# EAGLE library part SEN-13762 (library MILESTONE4LIB_A)
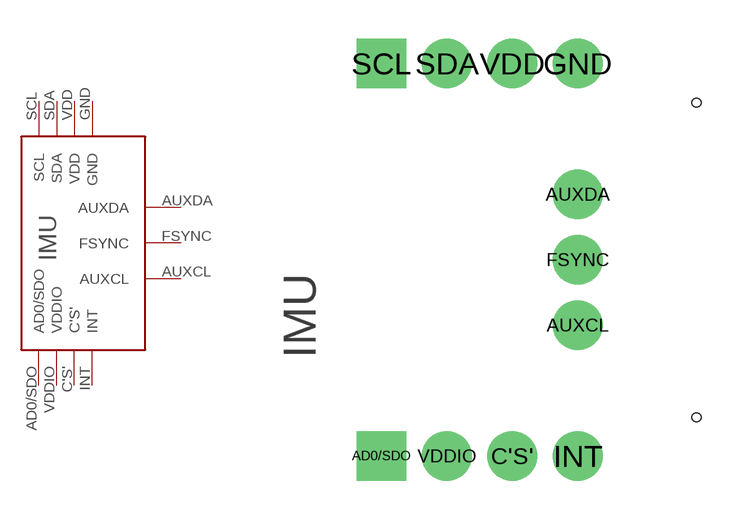
[diagram p2: symbol with the pads of MPU-9250; footprint MPU-9250]

Designator prefix -

## SEN-13762  [MPU-9250]
AD0/SDO  AD0/SDO
AUXCL  AUXCL
AUXDA  AUXDA
C'S'  C'S'
FSYNC  FSYNC
GND  GND
INT  INT
SCL  SCL
SDA  SDA
VDD  VDD
VDDIO  VDDIO

## Footprint MPU-9250 (pad centres in mm)
drill 1.016 pad 1.93 square: AD0/SDO -7.62,-7.62; SCL -7.62,7.62
drill 1.016 pad 1.93: AUXCL 0,-2.54; AUXDA 0,2.54; C'S' -2.54,-7.62; FSYNC 0,0; GND 0,7.62; INT 0,-7.62; SDA -5.08,7.62; VDD -2.54,7.62; VDDIO -5.08,-7.62
hole 0.35 at 4.597,-6.121
hole 0.35 at 4.597,6.096